# Altium schematic symbol library G3MB-202P.SchLib: 1 symbol
Pins are listed as number, name and electrical type; pins without a type are passive.

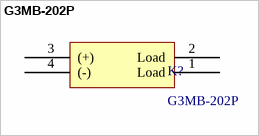
[diagram p0: symbol G3MB-202P]

## G3MB-202P
designator K?
footprint G3MB-202P
pins: 1 Load, 2 Load, 3 (+), 4 (-)